# Altium schematic symbol library LM2775DSGR.SchLib: 2 symbols
Pins are listed as number, name and electrical type; pins without a type are passive.

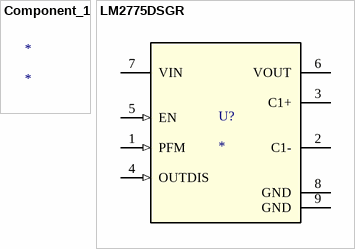
[diagram p0: symbols Component_1 to LM2775DSGR]

## Component_1
designator *

## LM2775DSGR
designator U?
No Description Available; Mfr_Name: Texas Instruments; TYPE: TYPE; RefDes: RefDes
footprint DSG0008A
pins: 1 PFM (in), 2 C1- (power), 3 C1+ (power), 4 OUTDIS (in), 5 EN (in), 6 VOUT (power), 7 VIN (power), 8 GND (power), 9 GND (power)